# EAGLE library part 621X1621921 (library Board-to-Board (rev18a))
WR-PHD 2.00mm Dual SMT Pin Header, 16 Pins=>Code :WR-PHD_SMD_2,00mm_zweireihig621x1621921(packageing:x = 0: Tube x = 3: Tape & Reel with Cap) <http://katalog.we-online.de/media/images/eican/WR-PHD_SMD_2,00mm_zweireihig62103221921.jpg> 6210xx21921 Details see: http://katalog.we-online.de/en/em/621_0xx_219_21 6213xx21921 Details see: http://katalog.we-online.de/en/em/PHD_2_00_SMT_DUAL_PIN_HEADER_REEL_6213XX21921 2014 (C) Würth Elektronik
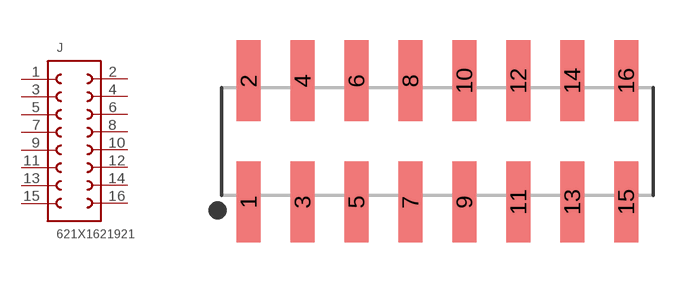
[diagram p235: symbol with the pads of 621X1621921; footprint 621X1621921]

Designator prefix J

## 621X1621921  [621X1621921]
1  1  pas
2  16  pas
3  2  pas
4  15  pas
5  3  pas
6  14  pas
7  4  pas
8  13  pas
9  5  pas
10  12  pas
11  6  pas
12  11  pas
13  7  pas
14  10  pas
15  8  pas
16  9  pas

## Footprint 621X1621921 (pad centres in mm)
WR-PHD 2.00mm Dual SMT Pin Header, 16 Pins
smd 0.89 x 3: 1 -7,-2.25; 2 -7,2.25; 3 -5,-2.25; 4 -5,2.25; 5 -3,-2.25; 6 -3,2.25; 7 -1,-2.25; 8 -1,2.25; 9 1,-2.25; 10 1,2.25; 11 3,-2.25; 12 3,2.25; 13 5,-2.25; 14 5,2.25; 15 7,-2.25; 16 7,2.25